# Altium schematic symbol library buck_boost.SchLib: 4 symbols
Pins are listed as number, name and electrical type; pins without a type are passive.

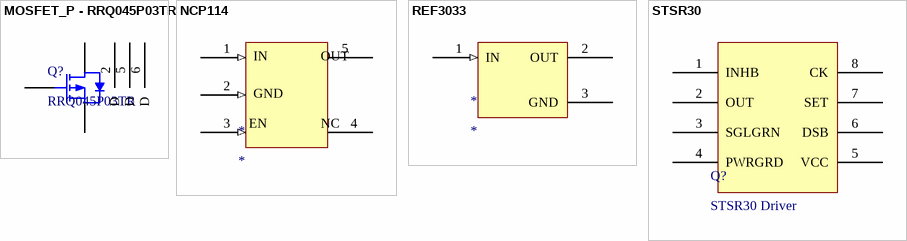
[diagram p0: symbols MOSFET_P - RRQ045P03TR to STSR30]

## MOSFET_P - RRQ045P03TR
designator Q?, comment RRQ045P03TR
footprint DDC0006A_L (SOT23, 6-Leads, Body 3.05x1.75mm, Pitch 0.95mm, IPC High Density)
pins: 1 D, 2 D, 3 G, 4 S, 5 D, 6 D

## NCP114
designator *
footprint SOT23-5_N (SOT23, 5-Leads, Body 2.9x1.6mm, Pitch 0.95mm, Lead Span 2.8mm, IPC Medium Density)
pins: 1 IN (in), 2 GND (in), 3 EN (in), 4 NC, 5 OUT (power)

## REF3033
designator *
footprint SOT23-3 (SOT23, 3-Leads, Body 3.04x1.4mm, Pitch 0.96mm, IPC High Density)
pins: 1 IN (in), 2 OUT (power), 3 GND

## STSR30
designator Q?, comment STSR30 Driver
footprint NXP-SOT96-1_L (SOIC, 8-Leads, Body 5x4mm, Pitch 1.27mm, IPC High Density)
pins: 1 INHB, 2 OUT, 3 SGLGRN, 4 PWRGRD, 5 VCC, 6 DSB, 7 SET, 8 CK